# Altium footprint library WS-TASV.PcbLib: 101 footprints (part 7 of 7)
Each footprint in its own frame and in the unit in brackets; x right, y up, seen from the top. Pads: shape width x height; smd on the part's side, far side on the other; paste and mask are expansions set on the pad; w line width, h text height; cw(c..) or ccw(c..) is an arc to the next point about the centre after c.
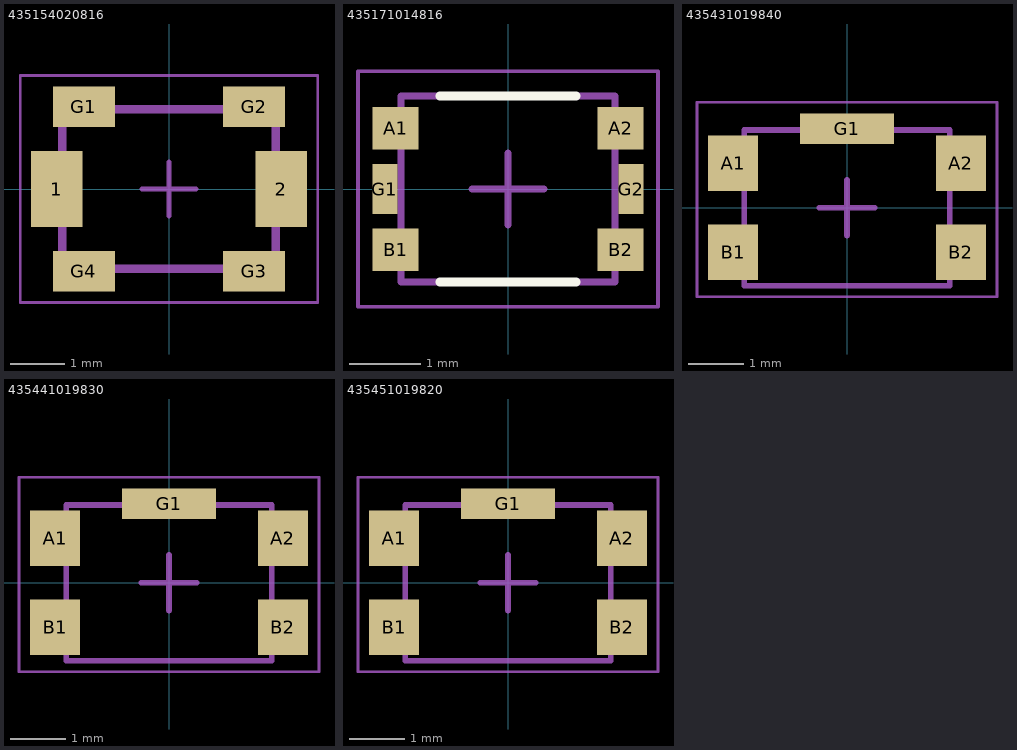
[diagram p6: the footprints below, top view; thin cyan lines are the x and y axes]

## 435154020816 [mm]
height 2
pads (6):
  rect 0.95x1.4 smd: 1(-2.075,0) 2(2.075,0)
  rect 1.15x0.75 smd: G1(-1.575,1.525) G2(1.575,1.525) G3(1.575,-1.525) G4(-1.575,-1.525)
Top Assembly:
  lines w0.1: -2,-1.5 2,-1.5 2,1.5 -2,1.5 -2,-1.5
Top Designator:
  text ".Designator" at -3.647,-0.357 h1
Top 3D Body:
  lines w0.1: -1.95,-1.45 1.95,-1.45 1.95,1.45 -1.95,1.45 -1.95,-1.45
Top Courtyard:
  lines w0.05: -2.75,-2.1 2.75,-2.1 2.75,2.1 -2.75,2.1 -2.75,-2.1
Top Component Center:
  lines w0.1: -0.5,0 0.5,0 ; 0,-0.5 0,0.5
3D body "435154020816.stp": height 2.02, standoff 0.02, extent -2.267,-1.451 2.267,1.451

## 435171014816 [mm] "SMD Tact Switch, body 3x2.6mm"
height 1.4
pads (6):
  rect 0.65x0.6 smd: A1(-1.575,0.85) A2(1.575,0.85) B1(-1.575,-0.85) B2(1.575,-0.85)
  rect 0.35x0.7 smd: G1(-1.725,0) G2(1.725,0)
Top Overlay:
  lines w0.127: -0.95,-1.3 0.95,-1.3 ; -0.95,1.3 0.95,1.3
Top Assembly:
  lines w0.1: -1.5,-1.3 1.5,-1.3 1.5,1.3 -1.5,1.3 -1.5,-1.3
Top Designator:
  text ".Designator" at -3.647,-0.357 h1
Top Courtyard:
  lines w0.05: -2.1,-1.65 2.1,-1.65 2.1,1.65 -2.1,1.65 -2.1,-1.65
Top Component Center:
  lines w0.1: -0.5,0 0.5,0 ; 0,-0.5 0,0.5
3D body "4351x10148xx.stp": height 1.43, standoff 0.02, extent -1.75,-1.3 1.75,1.3

## 435431019840 [mm] "Tact Switch, SMT, body 4.1x2.8mm"
height 1.9
pads (5):
  rect 0.9x1 smd: A1(-2.05,0.8) A2(2.05,0.8) B1(-2.05,-0.8) B2(2.05,-0.8)
  rect 1.7x0.55 smd: G1(0,1.425)
Top Assembly:
  lines w0.1: -1.85,-1.05 -2.3,-1.05 -2.3,-0.45 -1.85,-0.45 ; -1.85,0.45 -2.3,0.45 -2.3,1.05 -1.85,1.05 ; 1.85,-1.05 2.3,-1.05 2.3,-0.45 1.85,-0.45 ; 1.85,0.45 2.3,0.45 2.3,1.05 1.85,1.05 ; -1.85,-1.4 1.85,-1.4 1.85,1.4 -1.85,1.4 -1.85,-1.4
Top Designator:
  text ".Designator" at -3.647,-0.357 h1
Top Courtyard:
  lines w0.05: -2.7,-1.6 -2.7,1.9 2.7,1.9 2.7,-1.6 -2.7,-1.6
Top Component Center:
  lines w0.1: -0.5,0 0.5,0 ; 0,-0.5 0,0.5
3D body "435441019830.stp": height 1.9, standoff -0.01, extent -2.3,-1.4 2.3,1.45

## 435441019830 [mm] "Tact Switch, SMT, body 4.1x2.8mm"
height 1.9
pads (5):
  rect 0.9x1 smd: A1(-2.05,0.8) A2(2.05,0.8) B1(-2.05,-0.8) B2(2.05,-0.8)
  rect 1.7x0.55 smd: G1(0,1.425)
Top Assembly:
  lines w0.1: -1.85,-1.05 -2.3,-1.05 -2.3,-0.45 -1.85,-0.45 ; -1.85,0.45 -2.3,0.45 -2.3,1.05 -1.85,1.05 ; 1.85,-1.05 2.3,-1.05 2.3,-0.45 1.85,-0.45 ; 1.85,0.45 2.3,0.45 2.3,1.05 1.85,1.05 ; -1.85,-1.4 1.85,-1.4 1.85,1.4 -1.85,1.4 -1.85,-1.4
Top Designator:
  text ".Designator" at -3.647,-0.357 h1
Top Courtyard:
  lines w0.05: -2.7,-1.6 -2.7,1.9 2.7,1.9 2.7,-1.6 -2.7,-1.6
Top Component Center:
  lines w0.1: -0.5,0 0.5,0 ; 0,-0.5 0,0.5
3D body "435441019830.stp": height 1.9, standoff -0.01, extent -2.3,-1.4 2.3,1.45

## 435451019820 [mm] "Tact Switch, SMT, body 4.1x2.8mm"
height 1.9
pads (5):
  rect 0.9x1 smd: A1(-2.05,0.8) A2(2.05,0.8) B1(-2.05,-0.8) B2(2.05,-0.8)
  rect 1.7x0.55 smd: G1(0,1.425)
Top Assembly:
  lines w0.1: -1.85,-1.05 -2.3,-1.05 -2.3,-0.45 -1.85,-0.45 ; -1.85,0.45 -2.3,0.45 -2.3,1.05 -1.85,1.05 ; 1.85,-1.05 2.3,-1.05 2.3,-0.45 1.85,-0.45 ; 1.85,0.45 2.3,0.45 2.3,1.05 1.85,1.05 ; -1.85,-1.4 -1.85,1.4 1.85,1.4 1.85,-1.4 -1.85,-1.4
Top Designator:
  text ".Designator" at -3.647,-0.357 h1
Top Courtyard:
  lines w0.05: -2.7,-1.6 2.7,-1.6 2.7,1.9 -2.7,1.9 -2.7,-1.6
Top Component Center:
  lines w0.1: -0.5,0 0.5,0 ; 0,-0.5 0,0.5
3D body "435441019830.stp": height 1.9, standoff -0.01, extent -2.3,-1.4 2.3,1.45